# Altium footprint library FP-Connector.PcbLib: 32 footprints (part 1 of 2)
Each footprint in its own frame and in the unit in brackets; x right, y up, seen from the top. Pads: shape width x height; smd on the part's side, far side on the other; paste and mask are expansions set on the pad; w line width, h text height; cw(c..) or ccw(c..) is an arc to the next point about the centre after c.
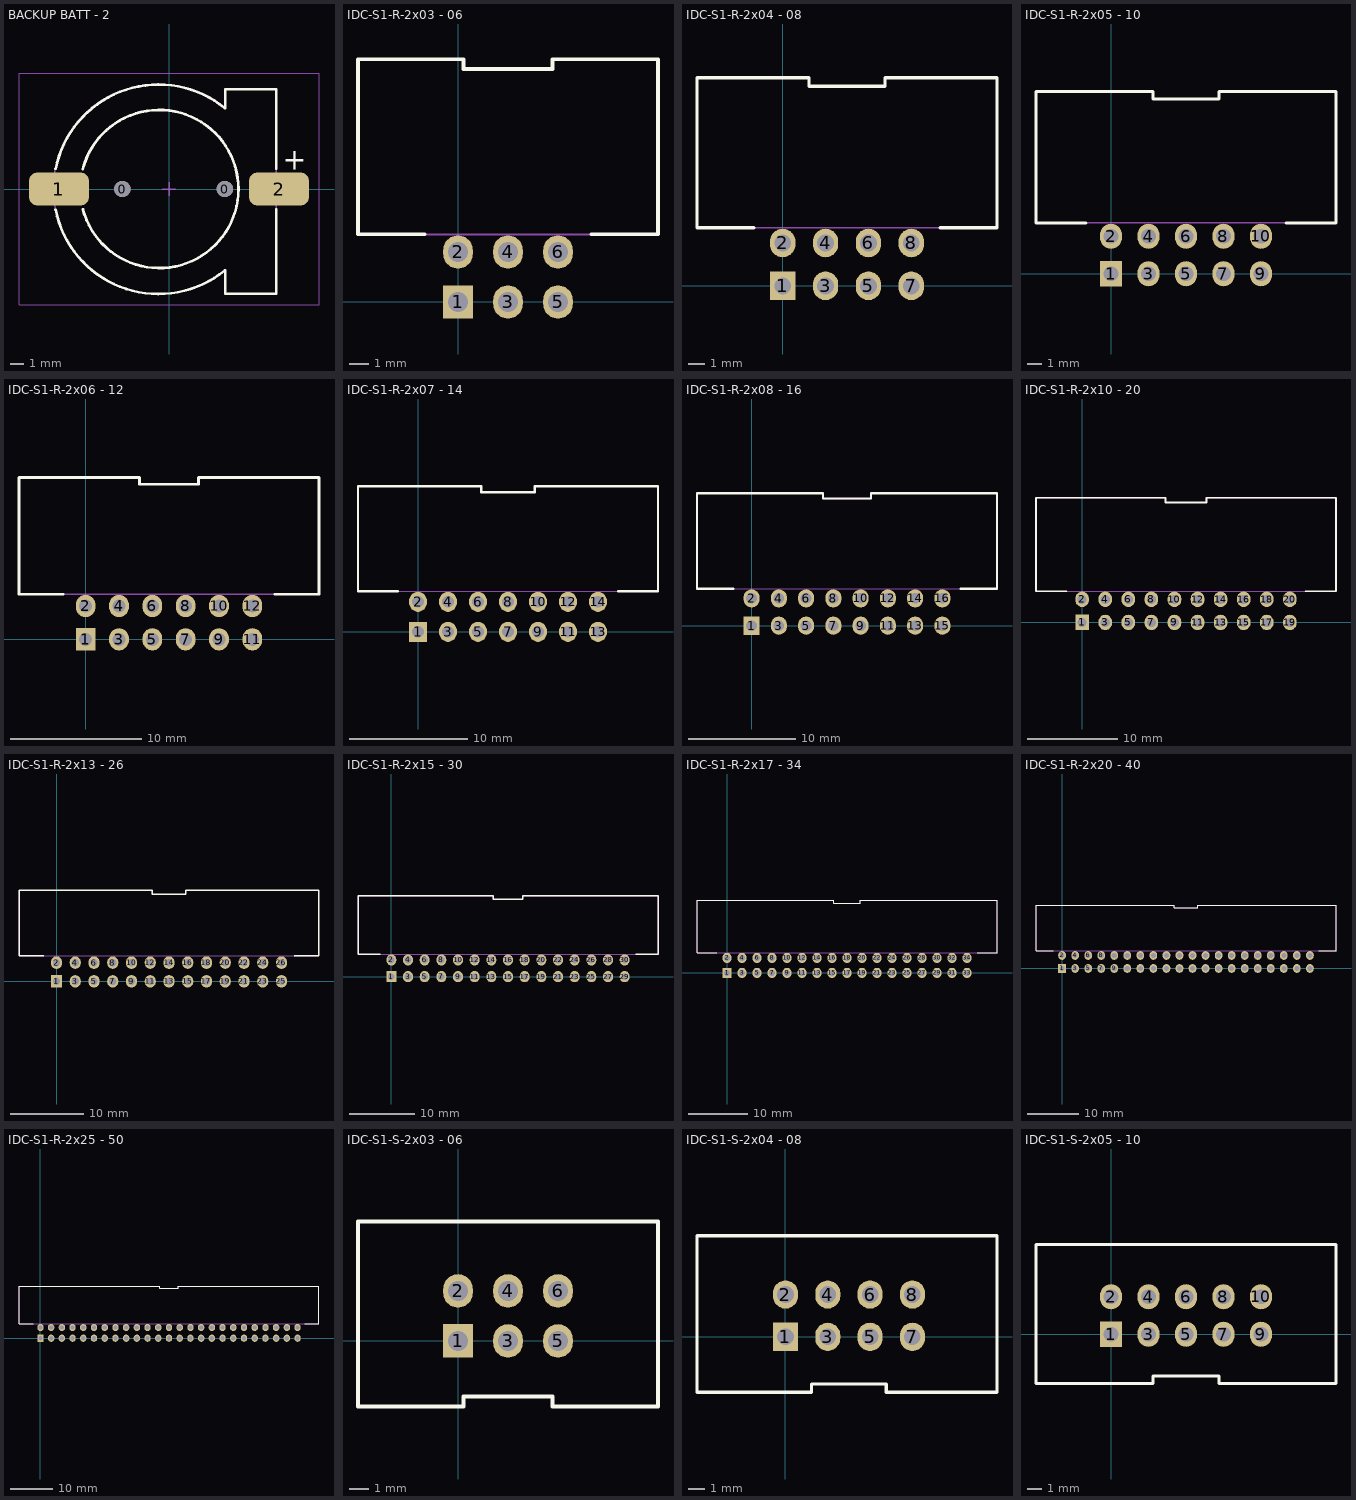
[diagram p0: the footprints below, top view; thin cyan lines are the x and y axes]

## BACKUP BATT - 2 [mm] "SMD BACK UP BATTERY FIT"
height 5
pads (4):
  round 1.2 hole 1.2: 0(-3.42,0) 0(4.099,0)
  rrect50% 4.4x2.4 smd: 1(-8.068,0) 2(8.068,0)
Top Overlay:
  lines w0.2: -8.316,-1.522 ccw(c-0.768,0) 4.092,-5.973 ; -8.316,1.481 cw(c-0.768,-0.041) 4.092,5.932 ; -6.32,1.473 cw(c-0.71,0) -6.315,-1.493 ; 4.132,-5.973 4.132,-7.68 7.872,-7.68 7.872,-1.5 ; 4.132,5.932 4.132,7.32 7.872,7.32 7.872,1.5
  text "+" at 8.332,1.4 h1.52
Top Assembly:
  lines w0.1: 4.092,-5.973 cw(c-0.768,0) 4.136,5.937 ; 4.132,-5.973 4.132,-7.68 7.872,-7.68 7.872,7.32 4.132,7.32 4.132,5.932
  text "'.Designator'" at 0.254,0.762 h1.52
Top Courtyard:
  lines w0.05: -11,-8.5 -11,8.5 11,8.5 11,-8.5 -11,-8.5
  lines w0.1: -0.5,0 0.5,0 ; 0,-0.5 0,0.5
3D body "User Library-CR1225.STEP": height 3.5, standoff 1, extent -7.068,-6.2 5.332,6.2
3D body "User Library-s8411-45r_asm.STEP": height 4.25, standoff -1, extent -9.818,-7.374 9.382,7.374

## IDC-S1-R-2x03 - 06 [mm]
pads (6):
  rect 1.5x1.7 hole 1: 1(0,0)
  oval 1.5x1.7 hole 1: 2(0,2.54) 3(2.54,0) 4(2.54,2.54) 5(5.08,0) 6(5.08,2.54)
Top Overlay:
  lines w0.2: -1.7,3.44 -5.08,3.44 -5.08,12.33 0.29,12.33 0.29,11.83 4.79,11.83 4.79,12.33 10.16,12.33 10.16,3.44 6.78,3.44
Top Assembly:
  lines w0.1: -5.08,3.44 -5.08,12.33 0.29,12.33 0.29,11.83 4.79,11.83 4.79,12.33 10.16,12.33 10.16,3.44 -5.08,3.44
  text "'.Designator'" at 0.254,6.262 h1.52
Top Courtyard:
  lines w0.1: -0.5,0 0.5,0 ; 0,-0.5 0,0.5

## IDC-S1-R-2x04 - 08 [mm]
pads (8):
  rect 1.5x1.7 hole 1: 1(0,0)
  oval 1.5x1.7 hole 1: 2(0,2.54) 3(2.54,0) 4(2.54,2.54) 5(5.08,0) 6(5.08,2.54) 7(7.62,0) 8(7.62,2.54)
Top Overlay:
  lines w0.2: -1.7,3.44 -5.08,3.44 -5.08,12.33 1.56,12.33 1.56,11.83 6.06,11.83 6.06,12.33 12.7,12.33 12.7,3.44 9.32,3.44
Top Assembly:
  lines w0.1: -5.08,3.44 12.7,3.44 12.7,12.33 6.06,12.33 6.06,11.83 1.56,11.83 1.56,12.33 -5.08,12.33 -5.08,3.44
  text "'.Designator'" at 0.254,6.262 h1.52
Top Courtyard:
  lines w0.1: -0.5,0 0.5,0 ; 0,-0.5 0,0.5

## IDC-S1-R-2x05 - 10 [mm]
pads (10):
  rect 1.5x1.7 hole 1: 1(0,0)
  oval 1.5x1.7 hole 1: 2(0,2.54) 3(2.54,0) 4(2.54,2.54) 5(5.08,0) 6(5.08,2.54) 7(7.62,0) 8(7.62,2.54) 9(10.16,0) 10(10.16,2.54)
Top Overlay:
  lines w0.2: -1.7,3.44 -5.08,3.44 -5.08,12.33 2.83,12.33 2.83,11.83 7.33,11.83 7.33,12.33 15.24,12.33 15.24,3.44 11.86,3.44
Top Assembly:
  lines w0.1: -5.08,3.44 15.24,3.44 15.24,12.33 7.33,12.33 7.33,11.83 2.83,11.83 2.83,12.33 -5.08,12.33 -5.08,3.44
  text "'.Designator'" at 0.254,6.262 h1.52
Top Courtyard:
  lines w0.1: -0.5,0 0.5,0 ; 0,-0.5 0,0.5

## IDC-S1-R-2x06 - 12 [mm]
pads (12):
  rect 1.5x1.7 hole 1: 1(0,0)
  oval 1.5x1.7 hole 1: 2(0,2.54) 3(2.54,0) 4(2.54,2.54) 5(5.08,0) 6(5.08,2.54) 7(7.62,0) 8(7.62,2.54) 9(10.16,0) 10(10.16,2.54) 11(12.7,0) 12(12.7,2.54)
Top Overlay:
  lines w0.2: -1.7,3.44 -5.08,3.44 -5.08,12.33 4.1,12.33 4.1,11.83 8.6,11.83 8.6,12.33 17.78,12.33 17.78,3.44 14.4,3.44
Top Assembly:
  lines w0.1: -5.08,3.44 17.78,3.44 17.78,12.33 8.6,12.33 8.6,11.83 4.1,11.83 4.1,12.33 -5.08,12.33 -5.08,3.44
  text "'.Designator'" at 0.254,6.262 h1.52
Top Courtyard:
  lines w0.1: -0.5,0 0.5,0 ; 0,-0.5 0,0.5

## IDC-S1-R-2x07 - 14 [mm]
pads (14):
  rect 1.5x1.7 hole 1: 1(0,0)
  oval 1.5x1.7 hole 1: 2(0,2.54) 3(2.54,0) 4(2.54,2.54) 5(5.08,0) 6(5.08,2.54) 7(7.62,0) 8(7.62,2.54) 9(10.16,0) 10(10.16,2.54) 11(12.7,0) 12(12.7,2.54) 13(15.24,0) 14(15.24,2.54)
Top Overlay:
  lines w0.2: -1.7,3.44 -5.08,3.44 -5.08,12.33 5.37,12.33 5.37,11.83 9.87,11.83 9.87,12.33 20.32,12.33 20.32,3.44 16.94,3.44
Top Assembly:
  lines w0.1: -5.08,3.44 -5.08,12.33 5.37,12.33 5.37,11.83 9.87,11.83 9.87,12.33 20.32,12.33 20.32,3.44 -5.08,3.44
  text "'.Designator'" at 0.254,6.262 h1.52
Top Courtyard:
  lines w0.1: -0.5,0 0.5,0 ; 0,-0.5 0,0.5

## IDC-S1-R-2x08 - 16 [mm]
pads (16):
  rect 1.5x1.7 hole 1: 1(0,0)
  oval 1.5x1.7 hole 1: 2(0,2.54) 3(2.54,0) 4(2.54,2.54) 5(5.08,0) 6(5.08,2.54) 7(7.62,0) 8(7.62,2.54) 9(10.16,0) 10(10.16,2.54) 11(12.7,0) 12(12.7,2.54) 13(15.24,0) 14(15.24,2.54) 15(17.78,0) 16(17.78,2.54)
Top Overlay:
  lines w0.2: -1.7,3.44 -5.08,3.44 -5.08,12.33 6.64,12.33 6.64,11.83 11.14,11.83 11.14,12.33 22.86,12.33 22.86,3.44 19.48,3.44
Top Assembly:
  lines w0.1: -5.08,3.44 -5.08,12.33 6.64,12.33 6.64,11.83 11.14,11.83 11.14,12.33 22.86,12.33 22.86,3.44 -5.08,3.44
  text "'.Designator'" at 0.254,6.262 h1.52
Top Courtyard:
  lines w0.1: -0.5,0 0.5,0 ; 0,-0.5 0,0.5

## IDC-S1-R-2x10 - 20 [mm]
pads (20):
  rect 1.5x1.7 hole 1: 1(0,0)
  oval 1.5x1.7 hole 1: 2(0,2.54) 3(2.54,0) 4(2.54,2.54) 5(5.08,0) 6(5.08,2.54) 7(7.62,0) 8(7.62,2.54) 9(10.16,0) 10(10.16,2.54) 11(12.7,0) 12(12.7,2.54) 13(15.24,0) 14(15.24,2.54) 15(17.78,0) 16(17.78,2.54) 17(20.32,0) 18(20.32,2.54) 19(22.86,0) 20(22.86,2.54)
Top Overlay:
  lines w0.2: -1.7,3.44 -5.08,3.44 -5.08,13.716 9.18,13.716 9.18,13.216 13.68,13.216 13.68,13.716 27.94,13.716 27.94,3.44 24.56,3.44
Top Assembly:
  lines w0.1: -5.08,3.44 27.94,3.44 27.94,13.716 13.68,13.716 13.68,13.216 9.18,13.216 9.18,13.716 -5.08,13.716 -5.08,3.44
  text "'.Designator'" at 0.254,6.262 h1.52
Top Courtyard:
  lines w0.1: -0.5,0 0.5,0 ; 0,-0.5 0,0.5
3D body "DS1013-20R (IDC-20R CONNFLY).stp": height 8.95, standoff -2.95, extent -5.17,-0.279 28.03,13.741

## IDC-S1-R-2x13 - 26 [mm]
pads (26):
  rect 1.5x1.7 hole 1: 1(0,0)
  oval 1.5x1.7 hole 1: 2(0,2.54) 3(2.54,0) 4(2.54,2.54) 5(5.08,0) 6(5.08,2.54) 7(7.62,0) 8(7.62,2.54) 9(10.16,0) 10(10.16,2.54) 11(12.7,0) 12(12.7,2.54) 13(15.24,0) 14(15.24,2.54) 15(17.78,0) 16(17.78,2.54) 17(20.32,0) 18(20.32,2.54) 19(22.86,0) 20(22.86,2.54) 21(25.4,0) 22(25.4,2.54) 23(27.94,0) 24(27.94,2.54) 25(30.48,0) 26(30.48,2.54)
Top Overlay:
  lines w0.2: -1.7,3.44 -5.08,3.44 -5.08,12.33 12.99,12.33 12.99,11.83 17.49,11.83 17.49,12.33 35.56,12.33 35.56,3.44 32.18,3.44
Top Assembly:
  lines w0.1: -5.08,3.44 35.56,3.44 35.56,12.33 17.49,12.33 17.49,11.83 12.99,11.83 12.99,12.33 -5.08,12.33 -5.08,3.44
  text "'.Designator'" at 0.254,6.262 h1.52
Top Courtyard:
  lines w0.1: -0.5,0 0.5,0 ; 0,-0.5 0,0.5

## IDC-S1-R-2x15 - 30 [mm]
pads (30):
  rect 1.5x1.7 hole 1: 1(0,0)
  oval 1.5x1.7 hole 1: 2(0,2.54) 3(2.54,0) 4(2.54,2.54) 5(5.08,0) 6(5.08,2.54) 7(7.62,0) 8(7.62,2.54) 9(10.16,0) 10(10.16,2.54) 11(12.7,0) 12(12.7,2.54) 13(15.24,0) 14(15.24,2.54) 15(17.78,0) 16(17.78,2.54) 17(20.32,0) 18(20.32,2.54) 19(22.86,0) 20(22.86,2.54) 21(25.4,0) 22(25.4,2.54) 23(27.94,0) 24(27.94,2.54) 25(30.48,0) 26(30.48,2.54) 27(33.02,0) 28(33.02,2.54) 29(35.56,0) 30(35.56,2.54)
Top Overlay:
  lines w0.2: -1.7,3.44 -5.08,3.44 -5.08,12.33 15.53,12.33 15.53,11.83 20.03,11.83 20.03,12.33 40.64,12.33 40.64,3.44 37.26,3.44
Top Assembly:
  lines w0.1: -5.08,3.44 -5.08,12.33 15.53,12.33 15.53,11.83 20.03,11.83 20.03,12.33 40.64,12.33 40.64,3.44 -5.08,3.44
  text "'.Designator'" at 0.254,6.262 h1.52
Top Courtyard:
  lines w0.1: -0.5,0 0.5,0 ; 0,-0.5 0,0.5

## IDC-S1-R-2x17 - 34 [mm]
pads (34):
  rect 1.5x1.7 hole 1: 1(0,0)
  oval 1.5x1.7 hole 1: 2(0,2.54) 3(2.54,0) 4(2.54,2.54) 5(5.08,0) 6(5.08,2.54) 7(7.62,0) 8(7.62,2.54) 9(10.16,0) 10(10.16,2.54) 11(12.7,0) 12(12.7,2.54) 13(15.24,0) 14(15.24,2.54) 15(17.78,0) 16(17.78,2.54) 17(20.32,0) 18(20.32,2.54) 19(22.86,0) 20(22.86,2.54) 21(25.4,0) 22(25.4,2.54) 23(27.94,0) 24(27.94,2.54) 25(30.48,0) 26(30.48,2.54) 27(33.02,0) 28(33.02,2.54) 29(35.56,0) 30(35.56,2.54) 31(38.1,0) 32(38.1,2.54) 33(40.64,0) 34(40.64,2.54)
Top Overlay:
  lines w0.2: -1.7,3.44 -5.08,3.44 -5.08,12.33 18.07,12.33 18.07,11.83 22.57,11.83 22.57,12.33 45.72,12.33 45.72,3.44 42.34,3.44
Top Assembly:
  lines w0.1: -5.08,3.44 45.72,3.44 45.72,12.33 22.57,12.33 22.57,11.83 18.07,11.83 18.07,12.33 -5.08,12.33 -5.08,3.44
  text "'.Designator'" at 0.254,6.262 h1.52
Top Courtyard:
  lines w0.1: -0.5,0 0.5,0 ; 0,-0.5 0,0.5

## IDC-S1-R-2x20 - 40 [mm]
pads (40):
  rect 1.5x1.7 hole 1: 1(0,0)
  oval 1.5x1.7 hole 1: 2(0,2.54) 3(2.54,0) 4(2.54,2.54) 5(5.08,0) 6(5.08,2.54) 7(7.62,0) 8(7.62,2.54) 9(10.16,0) 10(10.16,2.54) 11(12.7,0) 12(12.7,2.54) 13(15.24,0) 14(15.24,2.54) 15(17.78,0) 16(17.78,2.54) 17(20.32,0) 18(20.32,2.54) 19(22.86,0) 20(22.86,2.54) 21(25.4,0) 22(25.4,2.54) 23(27.94,0) 24(27.94,2.54) 25(30.48,0) 26(30.48,2.54) 27(33.02,0) 28(33.02,2.54) 29(35.56,0) 30(35.56,2.54) 31(38.1,0) 32(38.1,2.54) 33(40.64,0) 34(40.64,2.54) 35(43.18,0) 36(43.18,2.54) 37(45.72,0) 38(45.72,2.54) 39(48.26,0) 40(48.26,2.54)
Top Overlay:
  lines w0.2: -1.7,3.44 -5.08,3.44 -5.08,12.33 21.88,12.33 21.88,11.83 26.38,11.83 26.38,12.33 53.34,12.33 53.34,3.44 49.96,3.44
Top Assembly:
  lines w0.1: -5.08,3.44 53.34,3.44 53.34,12.33 26.38,12.33 26.38,11.83 21.88,11.83 21.88,12.33 -5.08,12.33 -5.08,3.44
  text "'.Designator'" at 0.254,6.262 h1.52
Top Courtyard:
  lines w0.1: -0.5,0 0.5,0 ; 0,-0.5 0,0.5

## IDC-S1-R-2x25 - 50 [mm]
pads (50):
  rect 1.5x1.7 hole 1: 1(0,0)
  oval 1.5x1.7 hole 1: 2(0,2.54) 3(2.54,0) 4(2.54,2.54) 5(5.08,0) 6(5.08,2.54) 7(7.62,0) 8(7.62,2.54) 9(10.16,0) 10(10.16,2.54) 11(12.7,0) 12(12.7,2.54) 13(15.24,0) 14(15.24,2.54) 15(17.78,0) 16(17.78,2.54) 17(20.32,0) 18(20.32,2.54) 19(22.86,0) 20(22.86,2.54) 21(25.4,0) 22(25.4,2.54) 23(27.94,0) 24(27.94,2.54) 25(30.48,0) 26(30.48,2.54) 27(33.02,0) 28(33.02,2.54) 29(35.56,0) 30(35.56,2.54) 31(38.1,0) 32(38.1,2.54) 33(40.64,0) 34(40.64,2.54) 35(43.18,0) 36(43.18,2.54) 37(45.72,0) 38(45.72,2.54) 39(48.26,0) 40(48.26,2.54) 41(50.8,0) 42(50.8,2.54) 43(53.34,0) 44(53.34,2.54) 45(55.88,0) 46(55.88,2.54) 47(58.42,0) 48(58.42,2.54) 49(60.96,0) 50(60.96,2.54)
Top Overlay:
  lines w0.2: -1.7,3.44 -5.08,3.44 -5.08,12.33 28.23,12.33 28.23,11.83 32.73,11.83 32.73,12.33 66.04,12.33 66.04,3.44 62.66,3.44
Top Assembly:
  lines w0.1: -5.08,3.44 -5.08,12.33 28.23,12.33 28.23,11.83 32.73,11.83 32.73,12.33 66.04,12.33 66.04,3.44 -5.08,3.44
  text "'.Designator'" at 0.254,6.262 h1.52
Top Courtyard:
  lines w0.1: -0.5,0 0.5,0 ; 0,-0.5 0,0.5

## IDC-S1-S-2x03 - 06 [mm]
pads (6):
  rect 1.5x1.7 hole 1: 1(0,0)
  oval 1.5x1.7 hole 1: 2(0,2.54) 3(2.54,0) 4(2.54,2.54) 5(5.08,0) 6(5.08,2.54)
Top Overlay:
  lines w0.2: -5.08,-3.33 -5.08,6.07 10.16,6.07 10.16,-3.33 4.79,-3.33 4.79,-2.83 0.29,-2.83 0.29,-3.33 -5.08,-3.33
Top Assembly:
  lines w0.1: -5.08,-3.33 -5.08,6.07 10.16,6.07 10.16,-3.33 4.79,-3.33 4.79,-2.83 0.29,-2.83 0.29,-3.33 -5.08,-3.33
  text "'.Designator'" at 0.254,0.762 h1.52
Top Courtyard:
  lines w0.1: -0.5,0 0.5,0 ; 0,-0.5 0,0.5

## IDC-S1-S-2x04 - 08 [mm]
pads (8):
  rect 1.5x1.7 hole 1: 1(0,0)
  oval 1.5x1.7 hole 1: 2(0,2.54) 3(2.54,0) 4(2.54,2.54) 5(5.08,0) 6(5.08,2.54) 7(7.62,0) 8(7.62,2.54)
Top Overlay:
  lines w0.2: -5.313,-3.33 -5.313,6.07 12.7,6.07 12.7,-3.33 6.06,-3.33 6.06,-2.83 1.56,-2.83 1.56,-3.33 -5.313,-3.33
Top Assembly:
  lines w0.1: -5.313,-3.33 -5.313,6.07 12.7,6.07 12.7,-3.33 6.06,-3.33 6.06,-2.83 1.56,-2.83 1.56,-3.33 -5.313,-3.33
  text "'.Designator'" at 0.254,0.762 h1.52
Top Courtyard:
  lines w0.1: -0.5,0 0.5,0 ; 0,-0.5 0,0.5

## IDC-S1-S-2x05 - 10 [mm]
pads (10):
  rect 1.5x1.7 hole 1: 1(0,0)
  oval 1.5x1.7 hole 1: 2(0,2.54) 3(2.54,0) 4(2.54,2.54) 5(5.08,0) 6(5.08,2.54) 7(7.62,0) 8(7.62,2.54) 9(10.16,0) 10(10.16,2.54)
Top Overlay:
  lines w0.2: -5.08,-3.33 -5.08,6.07 15.24,6.07 15.24,-3.33 7.33,-3.33 7.33,-2.83 2.83,-2.83 2.83,-3.33 -5.08,-3.33
Top Assembly:
  lines w0.1: -5.08,-3.33 -5.08,6.07 15.24,6.07 15.24,-3.33 7.33,-3.33 7.33,-2.83 2.83,-2.83 2.83,-3.33 -5.08,-3.33
  text "'.Designator'" at 0.254,0.762 h1.52
Top Courtyard:
  lines w0.1: -0.5,0 0.5,0 ; 0,-0.5 0,0.5